# Altium footprint library MF_SLOT_ESC_V2.0.PcbLib: 24 footprints (part 1 of 2)
Each footprint in its own frame and in the unit in brackets; x right, y up, seen from the top. Pads: shape width x height; smd on the part's side, far side on the other; paste and mask are expansions set on the pad; w line width, h text height; cw(c..) or ccw(c..) is an arc to the next point about the centre after c.
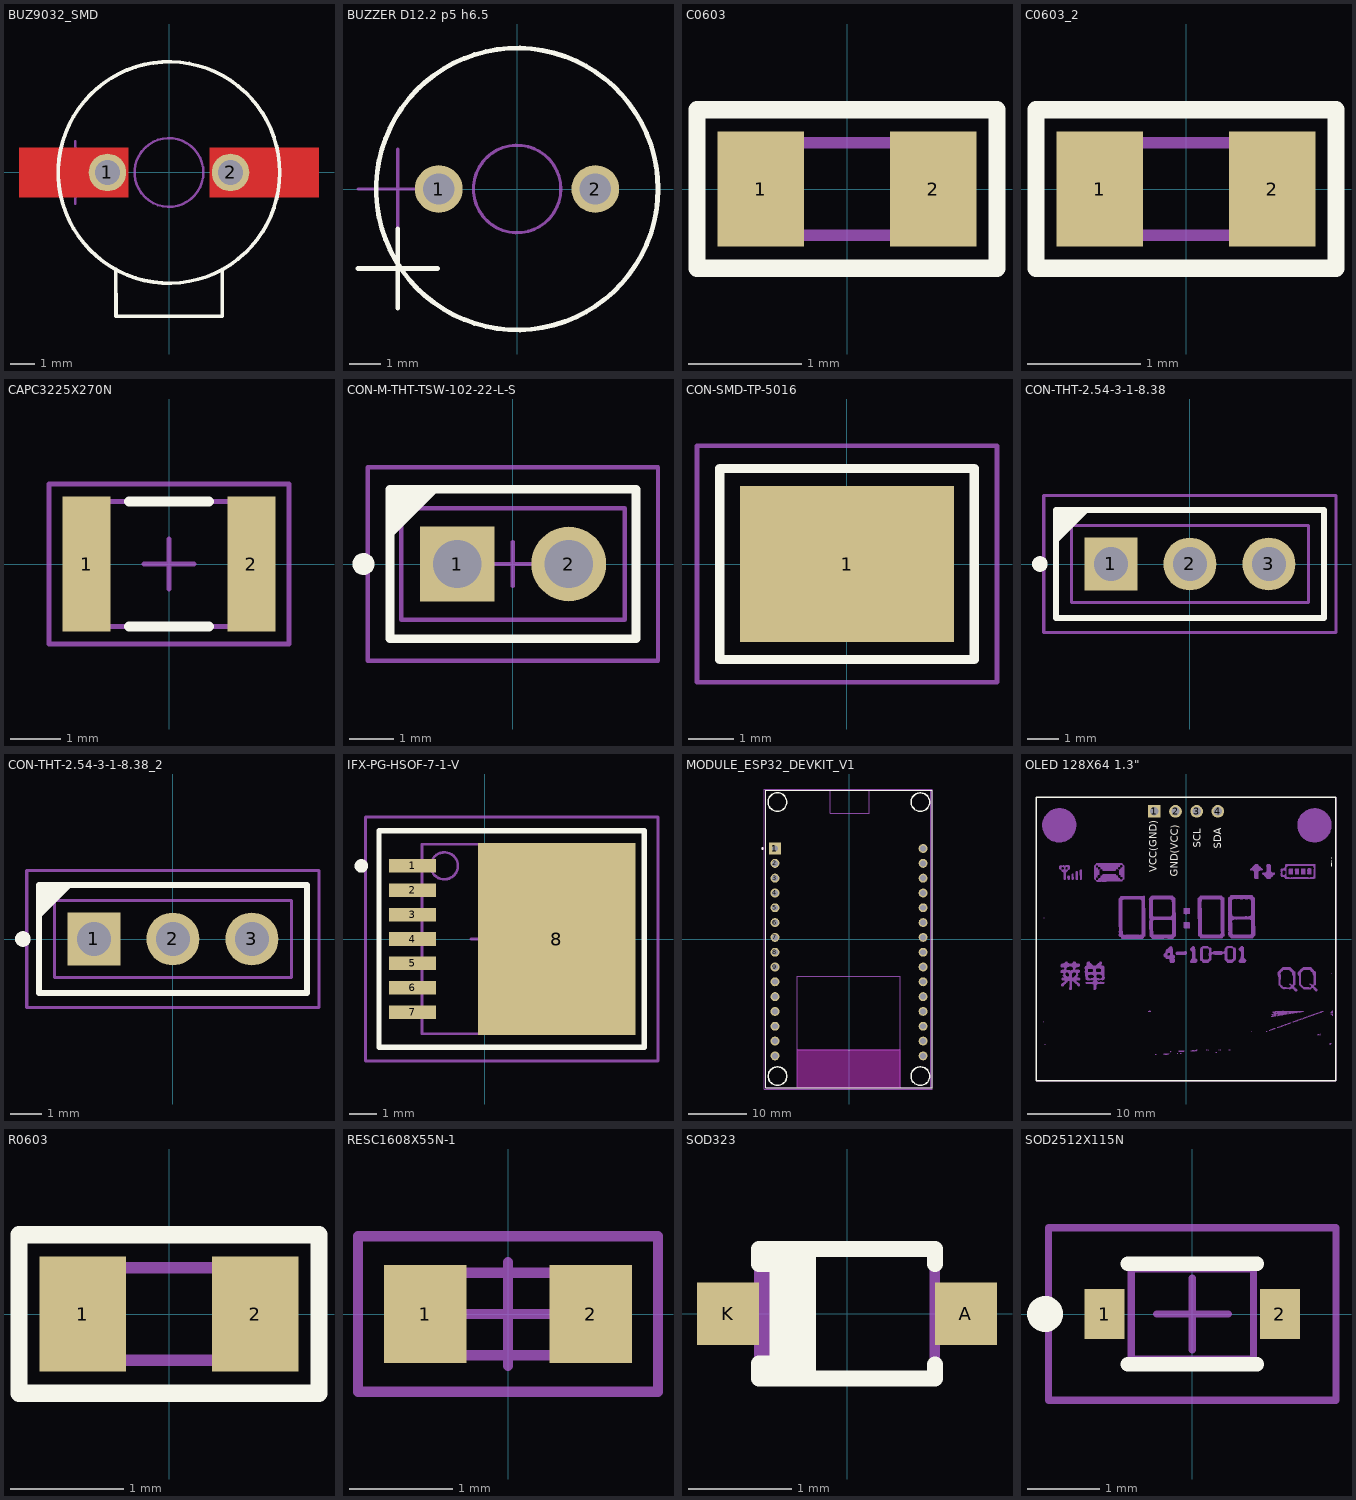
[diagram p0: the footprints below, top view; thin cyan lines are the x and y axes]

## BUZ9032_SMD [mm] "BUZZER9032_SMD"
height 3
pads (2):
  round 1.524 hole 1 paste-0.051 mask+0.051: 1(-2.5,0) 2(2.5,0)
Top Layer:
  rectangle: 1.651,-1.016 6.096,1.016
  rectangle: -6.096,-1.016 -1.651,1.016
Top Overlay:
  circle w0.152: c0,0 r4.5
  lines w0.152: -2.159,-3.937 -2.159,-5.842 2.159,-5.842 2.159,-3.937
Mechanical 2:
  circle w0.102: c0,0 r1.397
  circle w0.102: c0,0 r4.5
  lines w0.102: -5.08,0 -2.54,0 ; -3.81,-1.27 -3.81,1.27
Top Designator:
  text ".Designator" at 7.618,0.508 h1.52
3D body "BUZZER PS1240P02BT.step": height 6.51, standoff -2.99, extent -6.1,-6.1 6.1,6.1

## BUZZER D12.2 p5 h6.5 [mm] "PS1240P02BT"
height 6
pads (2):
  round 1.524 hole 1 paste-0.051 mask+0.051: 1(-2.5,0) 2(2.5,0)
Top Overlay:
  circle w0.152: c0,0 r4.5
  lines w0.152: -5.08,-2.54 -2.54,-2.54 ; -3.81,-3.81 -3.81,-1.27
Mechanical 2:
  circle w0.102: c0,0 r1.397
  circle w0.102: c0,0 r4.5
  lines w0.102: -5.08,0 -2.54,0 ; -3.81,-1.27 -3.81,1.27
Top Designator:
  text ".Designator" at 7.618,0.508 h1.52
3D body "BUZZER PS1240P02BT.step": height 6.51, standoff -2.99, extent -6.1,-6.1 6.1,6.1

## C0603 [mil]
pads (2):
  rect 30x40 smd paste-2 mask+2: 1(-30,0) 2(30,0)
Top Overlay:
  lines w6: -52.17,-27.56 -52.17,27.56 52.17,27.56 52.17,-27.56 -52.17,-27.56
Mechanical 2:
  lines w4: -32,-16 -32,16 32,16 32,-16 -32,-16
3D body "0603 SMD Capacitor.step": height 11.89, standoff 0, extent -31.49,-15.74 31.5,15.75

## C0603_2 [mil]
pads (2):
  rect 30x40 smd paste-2 mask+2: 1(-30,0) 2(30,0)
Top Overlay:
  lines w6: -52.17,-27.56 52.17,-27.56 52.17,27.56 -52.17,27.56 -52.17,-27.56
Mechanical 2:
  lines w4: -32,-16 32,-16 32,16 -32,16 -32,-16
3D body "0603 SMD Capacitor.step": height 11.89, standoff 0, extent -31.49,-15.74 31.5,15.75

## CAPC3225X270N [mm] "Capacitor,non-polarized,Chip;3.20mm L X 2.50mm W X 2.70mm H"
height 2.7
pads (2):
  rect 0.95x2.7 smd paste+0 mask+0: 1(-1.65,0) 2(1.65,0)
Top Overlay:
  lines w0.2: -0.8,-1.25 0.8,-1.25 ; -0.8,1.25 0.8,1.25
Mechanical 3:
  text ".DESIGNATOR" at 0,0 h1.2
Mechanical 13:
  lines w0.1: -1.6,-1.25 -1.6,1.25 1.6,1.25 1.6,-1.25 -1.6,-1.25
Mechanical 15:
  lines w0.1: -0.5,0 0.5,0 ; 0,-0.5 0,0.5 ; -2.4,-1.6 -2.4,1.6 2.4,1.6 2.4,-1.6 -2.4,-1.6
3D body: height 2.7, standoff 0, extent -1.598,-1.249 -1.299,1.25
3D body: height 2.7, standoff 0, extent 1.3,-1.249 1.599,1.25
3D body: height 2.7, standoff 0, extent -1.299,-1.249 1.3,1.25

## CON-M-THT-TSW-102-22-L-S [mm] "Header, Vertical, 2.54mm pitch; 0.64mm lead width, 2 pins, Single rows, 5.08mm L X 2.54mm W X 8.712mm H body"
height 8.712
pads (2):
  rect 1.7x1.7 hole 1.1 paste+0 mask+0: 1(-1.27,0)
  round 1.7 hole 1.1 paste+0 mask+0: 2(1.27,0)
Top Overlay:
  circle w0.25: c-3.4,0 r0.125
  lines w0.2: -2.8,0.7 -1.8,1.7 ; -2.8,0.9 -2,1.7 ; -2.8,1.1 -2.2,1.7 ; -2.8,1.3 -2.4,1.7 ; -2.8,1.5 -2.6,1.7 ; -2.8,-1.7 2.8,-1.7 2.8,1.7 -2.8,1.7 -2.8,-1.7
Mechanical 3:
  text ".DESIGNATOR" at 0,0 h1.2
Mechanical 13:
  lines w0.1: -2.54,-1.27 -2.54,1.27 2.54,1.27 2.54,-1.27 -2.54,-1.27
Mechanical 15:
  lines w0.1: -0.5,0 0.5,0 ; 0,-0.5 0,0.5 ; -3.3,-2.2 3.3,-2.2 3.3,2.2 -3.3,2.2 -3.3,-2.2
3D body "TSW-102-22-L-S.stp": height 8.38, standoff -7.62, extent -2.54,-1.27 2.667,1.27

## CON-SMD-TP-5016 [mm] "Test Point, SMD, 3.81mm L X 2.84mm W X 2.44mm H body"
height 2.44
pads (1):
  rect 4.7x3.43 smd paste+0 mask+0.051: 1(0,0)
Top Overlay:
  lines w0.2: -2.8,-2.1 2.8,-2.1 2.8,2.1 -2.8,2.1 -2.8,-2.1
Mechanical 3:
  text ".DESIGNATOR" at 0,0 h1.2
Mechanical 13:
  lines w0.1: -1.905,-1.42 -1.905,1.42 1.905,1.42 1.905,-1.42 -1.905,-1.42
Mechanical 15:
  lines w0.1: -0.5,0 0.5,0 ; 0,-0.5 0,0.5 ; -3.3,-2.6 3.3,-2.6 3.3,2.6 -3.3,2.6 -3.3,-2.6
3D body "keystone-PN5016.STEP": height 2.29, standoff 0, extent -1.905,-1.428 1.905,1.428

## CON-THT-2.54-3-1-8.38 [mm] "Header,vertical,2.54mm pitch;0.64mm lead width,3 pins,1 row,3 pins per row,7.62mm L X 2.48mm W X 8.38mm H body"
height 8.38
pads (3):
  rect 1.7x1.7 hole 1.1 paste+0 mask+0: 1(-2.54,0)
  round 1.7 hole 1.1 paste+0 mask+0: 2(0,0) 3(2.54,0)
Top Overlay:
  circle w0.25: c-4.826,0 r0.125
  lines w0.2: -4.267,0.813 -3.379,1.701 ; -4.267,1.067 -3.633,1.701 ; -4.267,1.321 -3.887,1.701 ; -4.267,1.575 -4.141,1.701 ; -4.31,-1.74 -4.31,1.74 4.31,1.74 4.31,-1.74 -4.31,-1.74
Mechanical 3:
  text ".DESIGNATOR" at 0,0 h1.2
Mechanical 13:
  lines w0.1: -3.81,-1.24 -3.81,1.24 3.81,1.24 3.81,-1.24 -3.81,-1.24
Mechanical 15:
  lines w0.1: -0.5,0 0.5,0 ; 0,-0.5 0,0.5 ; -4.7,-2.2 4.7,-2.2 4.7,2.2 -4.7,2.2 -4.7,-2.2
3D body "Samtec-HTSW-103-07-G-S.step": height 8.38, standoff -2.54, extent -3.81,-1.27 3.81,1.27

## CON-THT-2.54-3-1-8.38_2 [mm]
pads (3):
  rect 1.7x1.7 hole 1.1 paste+0 mask+0.051: 1(-2.54,0)
  round 1.7 hole 1.1 paste+0 mask+0.051: 2(0,0) 3(2.54,0)
Top Overlay:
  circle w0.25: c-4.826,0 r0.125
  lines w0.2: -4.267,0.813 -3.379,1.701 ; -4.267,1.067 -3.633,1.701 ; -4.267,1.321 -3.887,1.701 ; -4.267,1.575 -4.141,1.701 ; -4.31,-1.74 -4.31,1.74 4.31,1.74 4.31,-1.74 -4.31,-1.74
Mechanical 3:
  text ".DESIGNATOR" at 0,0 h1.2
Mechanical 13:
  lines w0.1: -3.81,-1.24 -3.81,1.24 3.81,1.24 3.81,-1.24 -3.81,-1.24
Mechanical 15:
  lines w0.1: -0.5,0 0.5,0 ; 0,-0.5 0,0.5 ; -4.7,-2.2 4.7,-2.2 4.7,2.2 -4.7,2.2 -4.7,-2.2
3D body "Samtec-HTSW-103-07-G-S.step": height 8.38, standoff -2.54, extent -3.81,-1.27 3.81,1.27

## IFX-PG-HSOF-7-1-V [mm] "HSOF-7-1; SMD, 0.90 mm Pitch, 8 pin, 6.70 mm L X 7.00 mm W X 2.30 mm H body"
height 2.3
pads (8):
  rect 1.75x0.5 smd paste-0.875 mask+0.051: 1(-2.662,2.7) 2(-2.662,1.8) 3(-2.662,0.9) 4(-2.662,0) 5(-2.662,-0.9) 6(-2.662,-1.8) 7(-2.662,-2.7)
  rect 5.8x7.1 smd paste-3.55 mask+0.051: 8(2.663,0)
Top Overlay:
  circle w0.25: c-4.55,2.7 r0.125
  lines w0.2: -3.9,-4 5.9,-4 5.9,4 -3.9,4 -3.9,-4
Top Paste:
  region: 5.437,-3.45 4.438,-3.45 4.438,-0.2 5.437,-0.2
  region: 5.437,3.45 4.438,3.45 4.438,0.2 5.437,0.2
  region: 3.938,0.2 3.938,2.9 2.937,2.9 2.937,0.2
  region: 3.938,-0.2 3.938,-2.9 2.937,-2.9 2.937,-0.2
  region: 2.438,0.2 2.438,3.2 1.438,3.2 1.438,0.2
  region: 2.438,-0.2 2.438,-3.2 1.438,-3.2 1.438,-0.2
  region: 0.938,0.2 0.938,3.2 -0.063,3.2 -0.062,0.2
  region: 0.938,-0.2 0.938,-3.2 -0.063,-3.2 -0.062,-0.2
  region: -3.463,2.9 -1.862,2.9 -1.862,2.5 -3.463,2.5
  region: -3.463,2 -1.862,2 -1.862,1.6 -3.463,1.6
  region: -3.463,1.1 -1.862,1.1 -1.862,0.7 -3.463,0.7
  region: -3.463,0.2 -1.862,0.2 -1.862,-0.2 -3.463,-0.2
  region: -3.463,-0.7 -1.862,-0.7 -1.863,-1.1 -3.463,-1.1
  region: -3.463,-1.6 -1.863,-1.6 -1.862,-2 -3.463,-2
  region: -3.463,-2.5 -1.862,-2.5 -1.863,-2.9 -3.463,-2.9
Top Solder:
  region: -0.238,3.3 2.462,3.3 2.462,3 4.312,3 4.312,3.55 5.562,3.55 5.562,-3.55 4.312,-3.55 4.312,-3 2.462,-3 2.462,-3.3 -0.238,-3.3
Mechanical 3:
  text ".DESIGNATOR" at 0,0 h1.2
Mechanical 13:
  circle w0.1: c-1.488,2.7 r0.5
  lines w0.1: -2.312,-3.5 -2.312,3.5 4.388,3.5 4.388,-3.5 -2.312,-3.5
Mechanical 15:
  lines w0.1: -0.5,0 0.5,0 ; 0,-0.5 0,0.5 ; -4.4,-4.5 6.4,-4.5 6.4,4.5 -4.4,4.5 -4.4,-4.5
3D body "PG-HSOF-7-1.STEP": height 2.3, standoff 0, extent -2.912,-3.5 5.088,3.5

## MODULE_ESP32_DEVKIT_V1 [mm]
height 6.8
pads (30):
  rect 2x2 hole 1 mask+0.051: 1(-12.7,15.515)
  round 1.524 hole 1 mask+0.051: 2(-12.7,12.975) 3(-12.7,10.435) 4(-12.7,7.895) 5(-12.7,5.355) 6(-12.7,2.815) 7(-12.7,0.275) 8(-12.7,-2.265) 9(-12.7,-4.805) 10(-12.7,-7.345) 11(-12.7,-9.885) 12(-12.7,-12.425) 13(-12.7,-14.965) 14(-12.7,-17.505) 15(-12.7,-20.045) 16(12.7,-20.045) 17(12.7,-17.505) 18(12.7,-14.965) 19(12.7,-12.425) 20(12.7,-9.885) 21(12.7,-7.345) 22(12.7,-4.805) 23(12.7,-2.265) 24(12.7,0.275) 25(12.7,2.815) 26(12.7,5.355) 27(12.7,7.895) 28(12.7,10.435) 29(12.7,12.975) 30(12.7,15.515)
Top Overlay:
  circle w0.254: c-12.27,-23.525 r1.594
  circle w0.254: c12.23,-23.525 r1.594
  circle w0.254: c12.23,23.475 r1.594
  circle w0.254: c-12.28,23.475 r1.6
  circle w0.2: c-14.85,15.515 r0.1
  lines w0.127: -14.28,-25.475 14.23,-25.475 ; -14.28,-25.475 -14.28,25.475 ; -14.28,-25.475 -14.28,25.475 ; -14.28,-25.475 -8.91,-25.475 8.78,-25.475 14.23,-25.475 ; -14.28,25.475 14.23,25.475 ; -14.28,25.475 -3.211,25.475 3.5,25.475 14.23,25.475 ; 14.23,-25.475 14.23,25.475 ; 14.23,-25.475 14.23,25.475
Keep-Out Layer:
  region: 8.78,-25.475 -8.91,-25.475 -8.91,-18.985 8.78,-18.985
  region: 8.78,-25.475 -8.91,-25.475 -8.91,-18.985 8.78,-18.985
Mechanical 13:
  circle w0.2: c-14.85,15.515 r0.1
  lines w0.127: -8.91,-25.475 -14.28,-25.475 -14.28,25.475 -3.211,25.475 ; -8.91,-25.475 8.78,-25.475 ; -8.91,-25.475 -8.91,-18.985 ; -8.91,-18.985 -8.91,-6.355 8.78,-6.355 8.78,-18.985 ; -8.91,-18.985 8.78,-18.985 ; -3.211,25.475 3.5,25.475 ; -3.211,25.475 -3.211,21.585 3.5,21.585 3.5,25.475 ; 3.5,25.475 14.011,25.475 14.011,-25.475 8.78,-25.475 ; 8.78,-25.475 8.78,-18.985
Mechanical 15:
  lines w0.05: -14.53,-25.725 -14.53,25.725 14.251,25.725 14.251,-25.725 -14.53,-25.725

## OLED 128X64 1.3" [mm]
height 2.44
pads (4):
  rect 1.524x1.524 hole 1 paste+0 mask+0.051: 1(-3.8,15.319)
  round 1.524 hole 1 paste+0 mask+0.051: 2(-1.26,15.319) 3(1.28,15.319) 4(3.82,15.319)
Top Overlay:
  region: 17.486,9.739 17.486,9.706 17.453,9.706 17.453,9.739
  region: 17.453,9.343 17.453,9.376 17.486,9.376 17.486,9.31 17.453,9.31
  region: 17.519,8.816 17.519,8.783 17.486,8.783 17.486,8.75 17.453,8.75 17.453,8.849 17.42,8.849 17.42,9.113 17.453,9.113 17.453,9.146 17.519,9.146 17.519,8.849
  lines w0.152: -18,-17 -18,17 18,17 18,-17 -18,-17
  text "SCL" at 1.763,10.956 h0.89
  text "GND(VCC)" at -1,7.5 h0.89
  text "SDA" at 4.227,10.837 h0.89
  text "VCC(GND)" at -3.5,8 h0.89
Mechanical 2:
  lines w0.102: -13.293,17 -18,17 -18,-17 18,-17 18,17 -5.19,17
Mechanical 9:
  drawing of 80 lines, arcs and shapes, not listed
  text ".Designator" at -3.809,-3.175 h0.76
3D body: height 4, standoff 2, extent -18,-17 18,17

## R0603 [mil]
height 316.93
pads (2):
  rect 30x40 smd paste-2 mask+2: 1(-30,0) 2(30,0)
Top Overlay:
  lines w6: -52.17,-27.56 -52.17,27.56 52.17,27.56 52.17,-27.56 -52.17,-27.56
Mechanical 2:
  lines w4: -32,-16 -32,16 32,16 32,-16 -32,-16
3D body "0603 SMD Resistor.step": height 17.32, standoff -0.39, extent -31.49,-16.14 31.5,16.14

## RESC1608X55N-1 [mm] "Resistor,Chip;1.60mm L X 0.80mm W X 0.55mm H"
height 0.55
pads (2):
  rect 0.8x0.95 smd paste+0 mask+0: 1(-0.8,0) 2(0.8,0)
Mechanical 3:
  text ".DESIGNATOR" at 0,0 h1.2
Mechanical 13:
  lines w0.1: -0.8,-0.4 -0.8,0.4 0.8,0.4 0.8,-0.4 -0.8,-0.4
Mechanical 15:
  lines w0.1: -0.5,0 0.5,0 ; 0,-0.5 0,0.5 ; -1.45,-0.75 -1.45,0.75 1.45,0.75 1.45,-0.75 -1.45,-0.75
3D body: height 0.55, standoff 0.5, extent -0.55,-0.4 0.55,0.4
3D body: height 0.5, standoff 0.05, extent 0.75,-0.4 0.8,0.4
3D body: height 0.55, standoff 0.5, extent 0.55,-0.4 0.8,0.4
3D body: height 0.05, standoff 0, extent 0.55,-0.4 0.8,0.4
3D body: height 0.5, standoff 0.05, extent -0.75,-0.4 0.75,0.4
3D body: height 0.05, standoff 0, extent -0.8,-0.4 -0.55,0.4
3D body: height 0.55, standoff 0.5, extent -0.8,-0.4 -0.55,0.4
3D body: height 0.5, standoff 0.05, extent -0.8,-0.4 -0.75,0.4

## SOD323 [mm]
height 8.05
pads (2):
  rect 0.6x0.6 smd mask+0.051: A(1.15,0) K(-1.15,0)
Top Overlay:
  rectangle: -0.75,-0.63 -0.3,0.62
  lines w0.152: -0.725,-0.48 -0.85,-0.48 -0.85,-0.625 0.85,-0.625 ; -0.725,0.48 -0.85,0.48 -0.85,0.625 ; 0.85,-0.49 0.85,-0.625 ; 0.85,0.48 0.85,0.625 ; -0.85,0.625 -0.85,0.625 ; -0.85,0.625 0.85,0.625 ; 0.85,-0.625 0.85,-0.625 ; 0.85,0.625 0.85,0.625
Mechanical 2:
  rectangle: -0.849,-0.626 -0.474,0.624
  lines w0.102: -0.85,-0.15 -1.25,-0.15 -1.25,0.15 -0.85,0.15 ; 0.85,-0.15 1.25,-0.15 1.25,0.15 0.85,0.15 ; -0.85,-0.625 -0.85,0.625 0.85,0.625 0.85,-0.625 -0.85,-0.625
3D body "SOD323.step": height 1.1, standoff 0, extent -1.35,-0.625 1.35,0.625

## SOD2512X115N [mm] "SOD Diode;1.70mm W X 1.25mm L X 1.15mm H body"
height 1.15
pads (2):
  rect 0.56x0.69 smd paste+0 mask+0.051: 1(-1.22,0) 2(1.22,0)
Top Overlay:
  circle w0.25: c-2.05,0 r0.125
  lines w0.2: -0.9,-0.7 0.9,-0.7 ; -0.9,0.7 0.9,0.7
Mechanical 3:
  text ".DESIGNATOR" at 0,0 h1.2
Mechanical 13:
  lines w0.1: -0.85,-0.625 -0.85,0.625 0.85,0.625 0.85,-0.625 -0.85,-0.625
  text "A" at 0.341,-0.255 h0.6
  text "K" at -0.718,-0.269 h0.6
Mechanical 15:
  lines w0.1: -0.5,0 0.5,0 ; 0,-0.5 0,0.5 ; -2,-1.2 -2,1.2 2,1.2 2,-1.2 -2,-1.2
3D body "SOD_1.7X1.25X1.15.STEP": height 1.15, standoff 0, extent -1.25,-0.625 1.25,0.625